# Altium footprint library Connector_Cosse.PcbLib: 1 footprints
Each footprint in its own frame and in the unit in brackets; x right, y up, seen from the top. Pads: shape width x height; smd on the part's side, far side on the other; paste and mask are expansions set on the pad; w line width, h text height; cw(c..) or ccw(c..) is an arc to the next point about the centre after c.
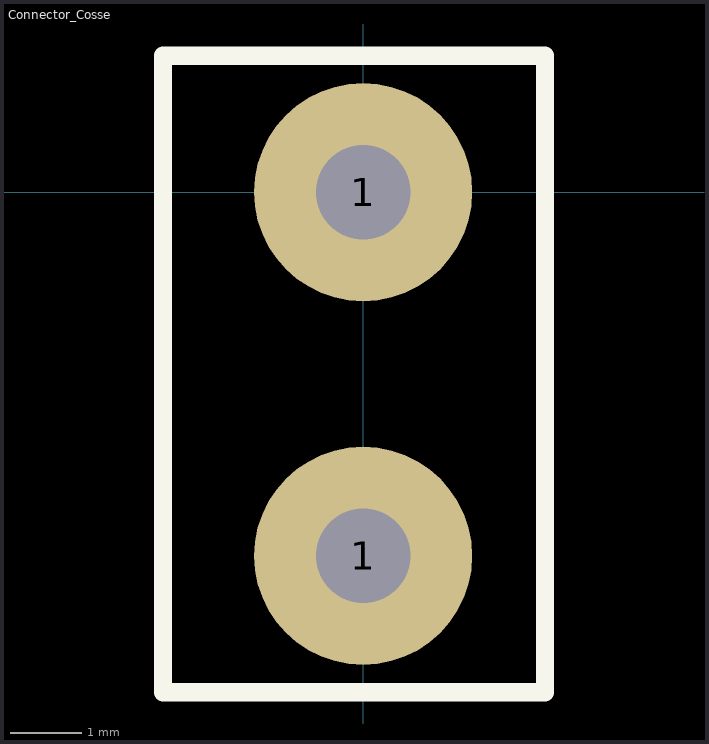
[diagram p0: the footprint, top view; thin cyan lines are the x and y axes]

## Connector_Cosse [mil]
pads (2):
  round 120 hole 52.01: 1(0,-200) 1(0,0)
Top Overlay:
  lines w10: -110,-275 -100,-275 100,-275 100,75 -100,75 -110,75 -110,-265 -110,-275